# Altium footprint library relay.PCBLIB: 291 footprints (part 5 of 19)
Each footprint in its own frame and in the unit in brackets; x right, y up, seen from the top. Pads: shape width x height; smd on the part's side, far side on the other; paste and mask are expansions set on the pad; w line width, h text height; cw(c..) or ccw(c..) is an arc to the next point about the centre after c.
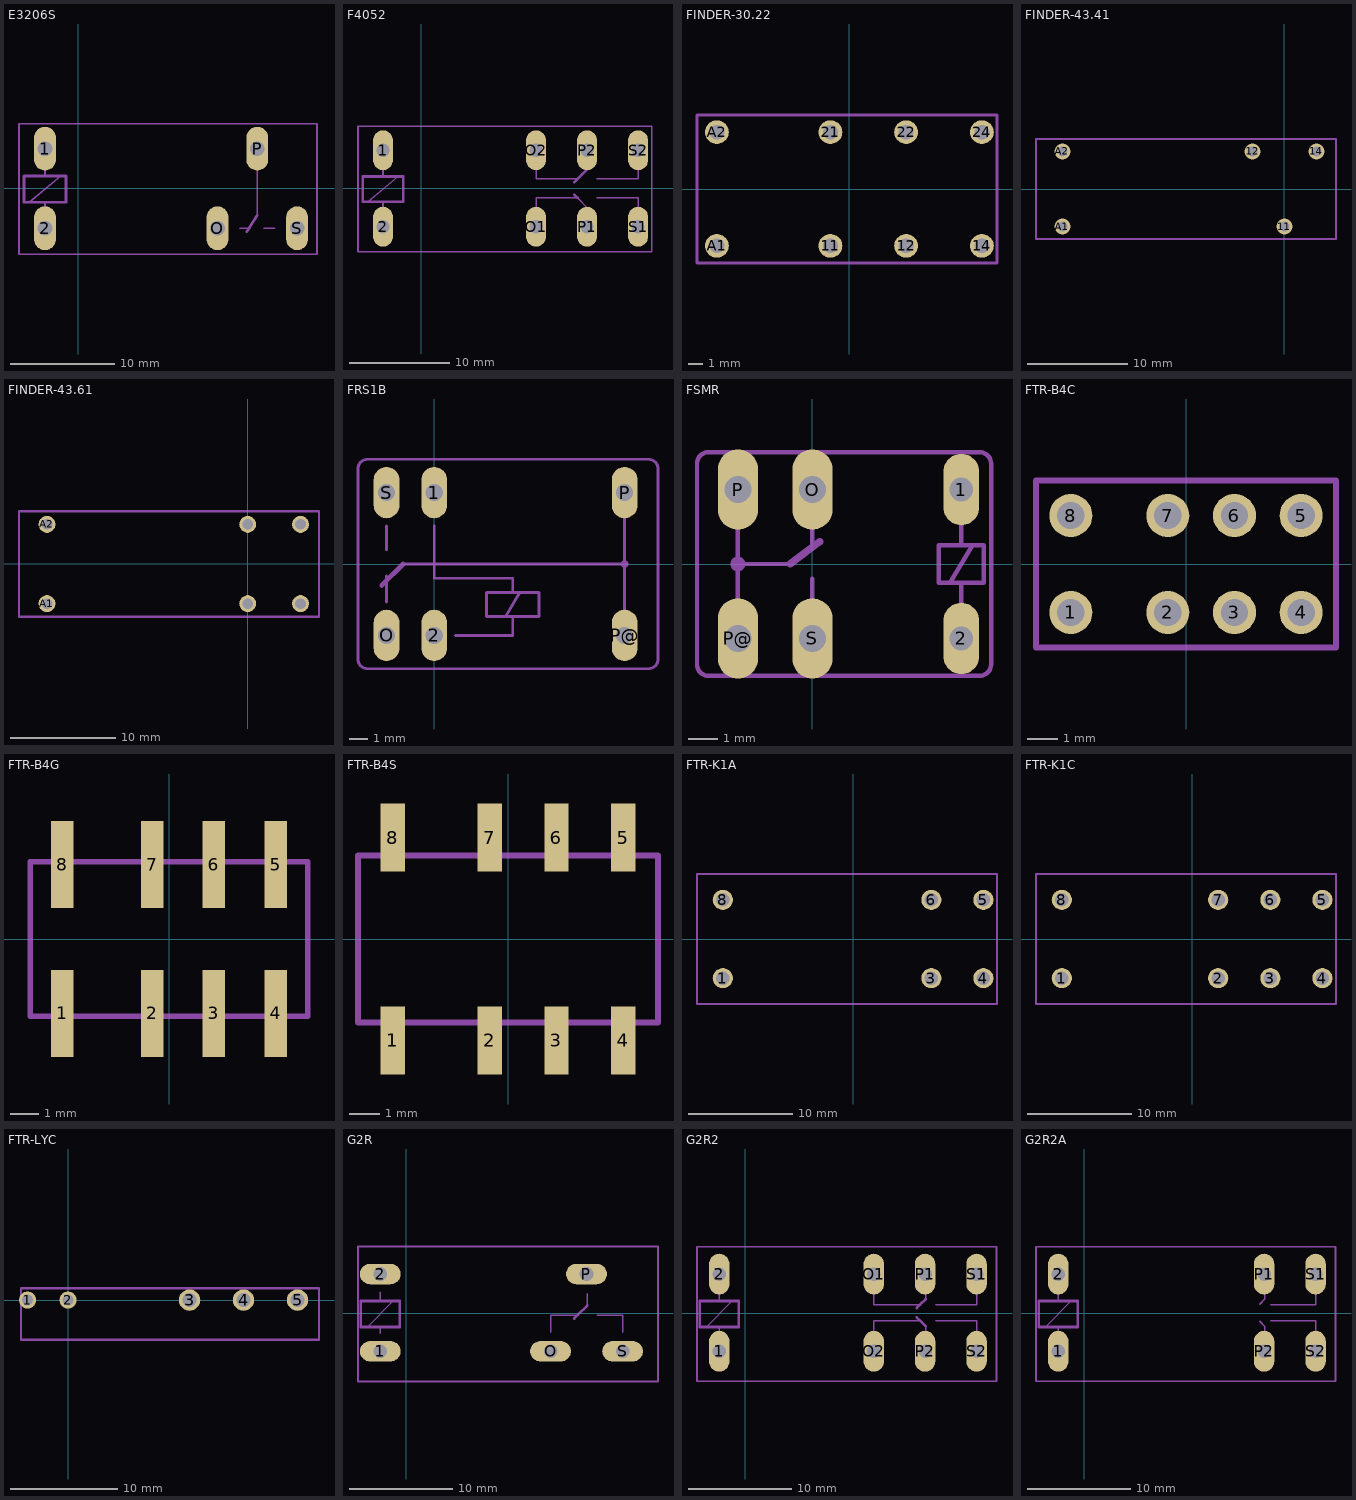
[diagram p4: the footprints below, top view; thin cyan lines are the x and y axes]

## E3206S [mil]
pads (5):
  oval 82.5x165 hole 55: 1(-125,150) 2(-125,-150) O(525,-150) P(675,150) S(825,-150)
Mechanical 2:
  lines w6: -184,-52 -66,47 ; -125,-81 -125,-52 ; -125,47 -125,81 ; 609,-150 648,-150 ; 675,-101 675,66 ; 700,-150 741,-150 ; 900,-190 900,-248 -223,-248 -223,244 900,244 900,-110
  lines w10: 635,-163 675,-101 ; -204,-52 -204,47 -125,47 -66,47 -46,47 -46,-52 -125,-52 -184,-52 -204,-52
Mechanical 18:
  lines w6: 900,-190 900,-110

## F4052 [mil]
pads (8):
  oval 78x156 hole 52: 1(-150,150) 2(-150,-150) O1(450,-150) O2(450,150) P1(650,-150) P2(650,150) S1(850,-150) S2(850,150)
Mechanical 2:
  lines w6: -209,-52 -91,47 ; -150,-81 -150,-52 ; -150,47 -150,81 ; 450,-80 450,-37 613,-37 650,-75 650,-85 ; 450,78 450,38 613,38 ; 650,75 650,85 ; 688,-37 850,-37 850,-80 ; 688,38 850,38 850,78 ; -248,-248 -248,244 904,244 904,-248 -248,-248
  lines w10: 600,-25 613,-37 ; 600,25 613,38 650,75 ; -229,-52 -229,47 -150,47 -91,47 -71,47 -71,-52 -150,-52 -209,-52 -229,-52
Mechanical 18:
  lines w6: 650,-110 650,-85 ; 650,85 650,110

## FINDER-30.22 [mm]
pads (8):
  round 1.6 hole 1: 11(-1.27,-3.81) 12(3.81,-3.81) 14(8.89,-3.81) 21(-1.27,3.81) 22(3.81,3.81) 24(8.89,3.81) A1(-8.89,-3.81) A2(-8.89,3.81)
Mechanical 2:
  lines w0.203: -10.22,-4.95 9.905,-4.95 9.905,4.95 -10.22,4.95 -10.22,-4.95

## FINDER-43.41 [mm]
pads (5):
  round 1.6 hole 1: 11(0,-3.75) 12(-3.2,3.75) 14(3.2,3.75) A1(-22.2,-3.75) A2(-22.2,3.75)
Mechanical 2:
  lines w0.203: -24.85,-5 5.15,-5 5.15,5 -24.85,5 -24.85,-5

## FINDER-43.61 [mm]
pads (6):
  round 1.6 hole 1: 11@1(0,3.75) 11@2(0,-3.75) 14@1(5,3.75) 14@2(5,-3.75) A1(-19,-3.75) A2(-19,3.75)
Mechanical 2:
  lines w0.203: -21.65,-5 6.75,-5 6.75,5 -21.65,5 -21.65,-5

## FRS1B [mil]
pads (6):
  oval 54x108 hole 36: 1(0,150) 2(0,-150) O(-100,-150) P(400,150) P@(400,-150) S(-100,150)
Mechanical 2:
  circle w6: c400,0 r5
  lines w6: -100,-80 -100,-25 ; -100,30 -100,80 ; -65,0 400,0 ; 0,80 0,-30 165,-30 165,-60 ; 45,-150 165,-150 165,-110 ; 400,-95 400,0 ; 400,95 400,0 ; 150,-110 110,-110 110,-60 165,-60 ; 150,-110 180,-60 ; 150,-110 165,-110 ; 165,-110 220,-110 220,-60 180,-60 ; 165,-60 180,-60 ; -160,-200 -160,200 cw(c-140,200) -140,220 450,220 cw(c450,200) 470,200 470,-200 cw(c450,-200) 450,-220 -140,-220 cw(c-140,-200) -160,-200
  lines w10: -110,-45 -65,0

## FSMR [mil]
pads (6):
  oval 48x96 hole 32: 1(200,100) 2(200,-100)
  oval 54x108 hole 36: O(0,100) P(-100,100) P@(-100,-100) S(0,-100)
Mechanical 2:
  circle w10: c-100,0 r5
  lines w6: -100,-60 -100,0 ; -100,60 -100,0 ; -30,0 -100,0 ; 0,-60 0,-20 ; 0,20 0,60 ; 200,-60 200,-25 ; 200,60 200,25 ; 185,-25 200,-25 ; 185,-25 215,25 ; 185,-25 170,-25 170,25 200,25 ; 200,-25 230,-25 230,25 215,25 ; 200,25 215,25 ; -155,-135 -155,135 cw(c-140,135) -140,150 225,150 cw(c225,135) 240,135 240,-135 cw(c225,-135) 225,-150 -140,-150 cw(c-140,-135) -155,-135
  lines w10: -30,0 10,30

## FTR-B4C [mil]
pads (8):
  round 56 hole 35.43: 1(-149.61,-62.99) 2(-23.62,-62.99) 3(62.99,-62.99) 4(149.61,-62.99) 5(149.61,62.99) 6(62.99,62.99) 7(-23.62,62.99) 8(-149.61,62.99)
Mechanical 2:
  lines w8: -194.88,-108.27 194.88,-108.27 194.88,108.27 -194.88,108.27 -194.88,-108.27

## FTR-B4G [mil]
pads (8):
  rect 31.5x122.05 smd: 1(-149.61,-104.33) 2(-23.62,-104.33) 3(62.99,-104.33) 4(149.61,-104.33) 5(149.61,104.33) 6(62.99,104.33) 7(-23.62,104.33) 8(-149.61,104.33)
Mechanical 2:
  lines w8: -194.88,-108.27 194.88,-108.27 194.88,108.27 -194.88,108.27 -194.88,-108.27

## FTR-B4S [mil]
pads (8):
  rect 31.5x88.58 smd: 1(-149.61,-131.69) 2(-23.62,-131.69) 3(62.99,-131.69) 4(149.61,-131.69) 5(149.61,131.69) 6(62.99,131.69) 7(-23.62,131.69) 8(-149.61,131.69)
Mechanical 2:
  lines w8: -194.88,-108.27 194.88,-108.27 194.88,108.27 -194.88,108.27 -194.88,-108.27

## FTR-K1A [mil]
pads (6):
  round 76 hole 51.18: 1(-492.13,-147.64) 3(295.28,-147.64) 4(492.13,-147.64) 5(492.13,147.64) 6(295.28,147.64) 8(-492.13,147.64)
Mechanical 2:
  lines w8: -589.57,-246.06 543.31,-246.06 543.31,246.06 -589.57,246.06 -589.57,-246.06

## FTR-K1C [mil]
pads (8):
  round 76 hole 51.18: 1(-492.13,-147.64) 2(98.43,-147.64) 3(295.28,-147.64) 4(492.13,-147.64) 5(492.13,147.64) 6(295.28,147.64) 7(98.43,147.64) 8(-492.13,147.64)
Mechanical 2:
  lines w8: -589.57,-246.06 543.31,-246.06 543.31,246.06 -589.57,246.06 -589.57,-246.06

## FTR-LYC [mm]
pads (5):
  round 1.6 hole 1: 1(-3.78,0) 2(0,0)
  round 2 hole 1.3: 3(11.34,0) 4(16.38,0) 5(21.42,0)
Mechanical 2:
  lines w0.203: -4.4,-3.7 23.425,-3.7 23.425,1.1 -4.4,1.1
Mechanical 18:
  lines w0.203: -4.4,-3.7 -4.4,1.1

## G2R [mil]
pads (5):
  oval 156x78 hole 52: 1(-100,-145) 2(-100,150) O(550,-145) P(687,150) S(825,-145)
Mechanical 2:
  lines w6: -149,-52 -51,47 ; -100,-76 -100,-52 ; -100,47 -100,81 ; 550,-72 550,-7 653,-7 ; 690,30 690,75 ; 728,-7 825,-7 825,-72 ; -185,-260 960,-260 960,255 -185,255 -185,-260
  lines w10: 640,-20 653,-7 690,30 ; -174,-52 -174,47 -100,47 -51,47 -26,47 -26,-52 -100,-52 -149,-52 -174,-52

## G2R2 [mil]
pads (8):
  oval 78x156 hole 52: 1(-100,-145) 2(-100,150) O1(491,150) O2(491,-145) P1(687,150) P2(687,-145) S1(884,150) S2(884,-145)
Mechanical 2:
  lines w6: -149,-52 -51,47 ; -100,-76 -100,-52 ; -100,47 -100,81 ; 490,-73 490,-28 668,-28 ; 490,78 490,33 668,33 ; 690,-70 690,-50 ; 690,55 690,75 ; 728,-28 885,-28 885,-73 ; 728,33 885,33 885,78 ; -185,-260 960,-260 960,255 -185,255 -185,-260
  lines w10: 655,-15 668,-28 690,-50 ; 655,20 668,33 690,55 ; -174,-52 -174,47 -100,47 -51,47 -26,47 -26,-52 -100,-52 -149,-52 -174,-52

## G2R2A [mil]
pads (6):
  oval 78x156 hole 52: 1(-100,-145) 2(-100,150) P1(687,150) P2(687,-145) S1(884,150) S2(884,-145)
Mechanical 2:
  lines w6: -149,-52 -51,47 ; -100,-76 -100,-52 ; -100,47 -100,81 ; 670,-30 690,-50 690,-70 ; 670,35 690,55 690,75 ; 713,-28 885,-28 885,-73 ; 713,33 885,33 885,78 ; -185,-260 960,-260 960,255 -185,255 -185,-260
  lines w10: -174,-52 -174,47 -100,47 -51,47 -26,47 -26,-52 -100,-52 -149,-52 -174,-52